# EAGLE library part CAM_OV2640 (library Ilya_Teach)
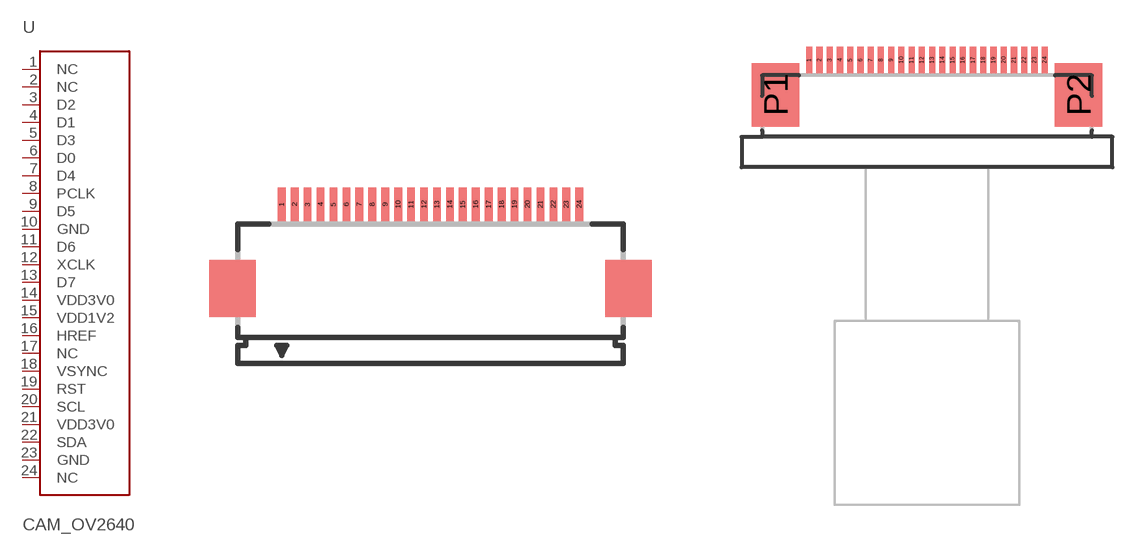
[diagram p4: symbol with the pads of FH12-24S-0.5SH; footprints FH12-24S-0.5SH, CAM_CONN]

Designator prefix -

## CAM_OV2640PLAIN  [FH12-24S-0.5SH]
1  NC
2  NC
3  D2
4  D1
5  D3
6  D0
7  D4
8  PCLK
9  D5
10  GND
11  D6
12  XCLK
13  D7
14  VDD3V0
15  VDD1V2
16  HREF
17  NC
18  VSYNC
19  RST
20  SCL
21  VDD3V0
22  SDA
23  GND
24  NC

## CAM_OV2640OUTLINE  [CAM_CONN]
Pads as for FH12-24S-0.5SH

## Footprint FH12-24S-0.5SH (pad centres in mm)
0.5mm Pitch Connectors For FPC/FFC Source: Data sheet <http://www.hirose.co.jp/cataloge_hp/e58605370.pdf>
smd 0.3 x 1.3: 1 -5.75,3.25; 2 -5.25,3.25; 3 -4.75,3.25; 4 -4.25,3.25; 5 -3.75,3.25; 6 -3.25,3.25; 7 -2.75,3.25; 8 -2.25,3.25; 9 -1.75,3.25; 10 -1.25,3.25; 11 -0.75,3.25; 12 -0.25,3.25; 13 0.25,3.25; 14 0.75,3.25; 15 1.25,3.25; 16 1.75,3.25; 17 2.25,3.25; 18 2.75,3.25; 19 3.25,3.25; 20 3.75,3.25; 21 4.25,3.25; 22 4.75,3.25; 23 5.25,3.25; 24 5.75,3.25

## Footprint CAM_CONN (pad centres in mm)
smd 0.3 x 1.3: 1 -5.75,3.25; 2 -5.25,3.25; 3 -4.75,3.25; 4 -4.25,3.25; 5 -3.75,3.25; 6 -3.25,3.25; 7 -2.75,3.25; 8 -2.25,3.25; 9 -1.75,3.25; 10 -1.25,3.25; 11 -0.75,3.25; 12 -0.25,3.25; 13 0.25,3.25; 14 0.75,3.25; 15 1.25,3.25; 16 1.75,3.25; 17 2.25,3.25; 18 2.75,3.25; 19 3.25,3.25; 20 3.75,3.25; 21 4.25,3.25; 22 4.75,3.25; 23 5.25,3.25; 24 5.75,3.25
smd 2.3 x 3.1: P1 -7.4,1.55; P2 7.4,1.55